# EAGLE library part SJA1000 (library micro-philips)
BASIC-CAN 2.0a Controller (former 82C200) Stand-alone CAN controller
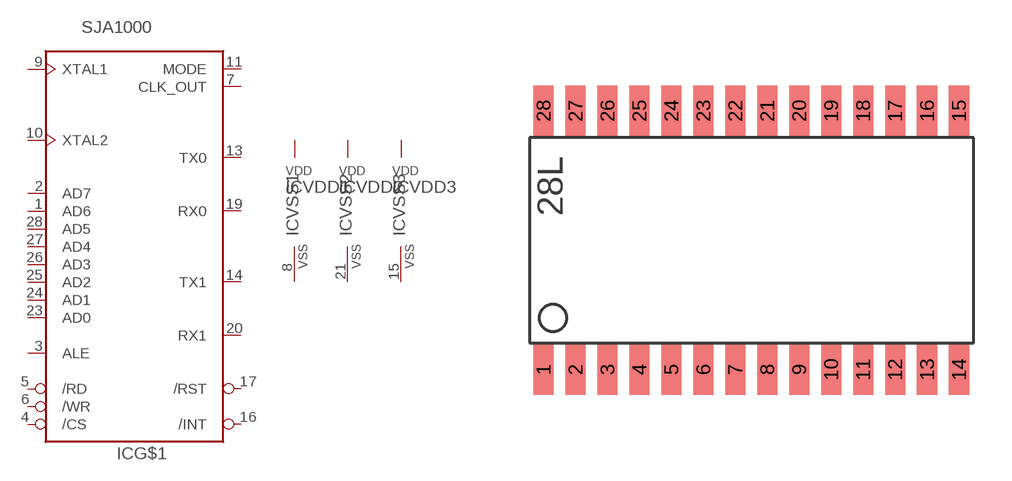
[diagram p15: symbol with the pads of SO-28L; footprint SO-28L]

Designator prefix IC; gates G$1=82C200 VDD1=VDD VDD2=VDD VDD3=VDD VSS1=VSS VSS2=VSS VSS3=VSS

## SJA1000T (MPN: SJA1000T/N1; OC_FARNELL: 1775880; OC_NEWARK: 52R2325)  [SO-28L]
1  G$1:AD6  hiz
2  G$1:AD7  hiz
3  G$1:ALE
4  G$1:/CS  in
5  G$1:/RD  in
6  G$1:/WR  in
7  G$1:CLK_OUT  out
8  VSS1:VSS  pwr
9  G$1:XTAL1  in
10  G$1:XTAL2  in
11  G$1:MODE  in
12  VDD3:VDD  pwr
13  G$1:TX0  out
14  G$1:TX1  out
15  VSS3:VSS  pwr
16  G$1:/INT  out
17  G$1:/RST  in
18  VDD2:VDD  pwr
19  G$1:RX0  in
20  G$1:RX1  in
21  VSS2:VSS  pwr
22  VDD1:VDD  pwr
23  G$1:AD0  hiz
24  G$1:AD1  hiz
25  G$1:AD2  hiz
26  G$1:AD3  hiz
27  G$1:AD4  hiz
28  G$1:AD5  hiz

## Footprint SO-28L (pad centres in mm)
Small Outline large
smd 0.8 x 2: 1 -8.89,-5.207; 2 -7.62,-5.207; 3 -6.35,-5.207; 4 -5.08,-5.207; 5 -3.81,-5.207; 6 -2.54,-5.207; 7 -1.27,-5.207; 8 0,-5.207; 9 1.27,-5.207; 10 2.54,-5.207; 11 3.81,-5.207; 12 5.08,-5.207; 13 6.35,-5.207; 14 7.62,-5.207; 15 7.62,5.08; 16 6.35,5.08; 17 5.08,5.08; 18 3.81,5.08; 19 2.54,5.08; 20 1.27,5.08; 21 0,5.08; 22 -1.27,5.08; 23 -2.54,5.08; 24 -3.81,5.08; 25 -5.08,5.08; 26 -6.35,5.08; 27 -7.62,5.08; 28 -8.89,5.08